# Altium footprint library RF.PcbLib: 8 footprints
Each footprint in its own frame and in the unit in brackets; x right, y up, seen from the top. Pads: shape width x height; smd on the part's side, far side on the other; paste and mask are expansions set on the pad; w line width, h text height; cw(c..) or ccw(c..) is an arc to the next point about the centre after c.
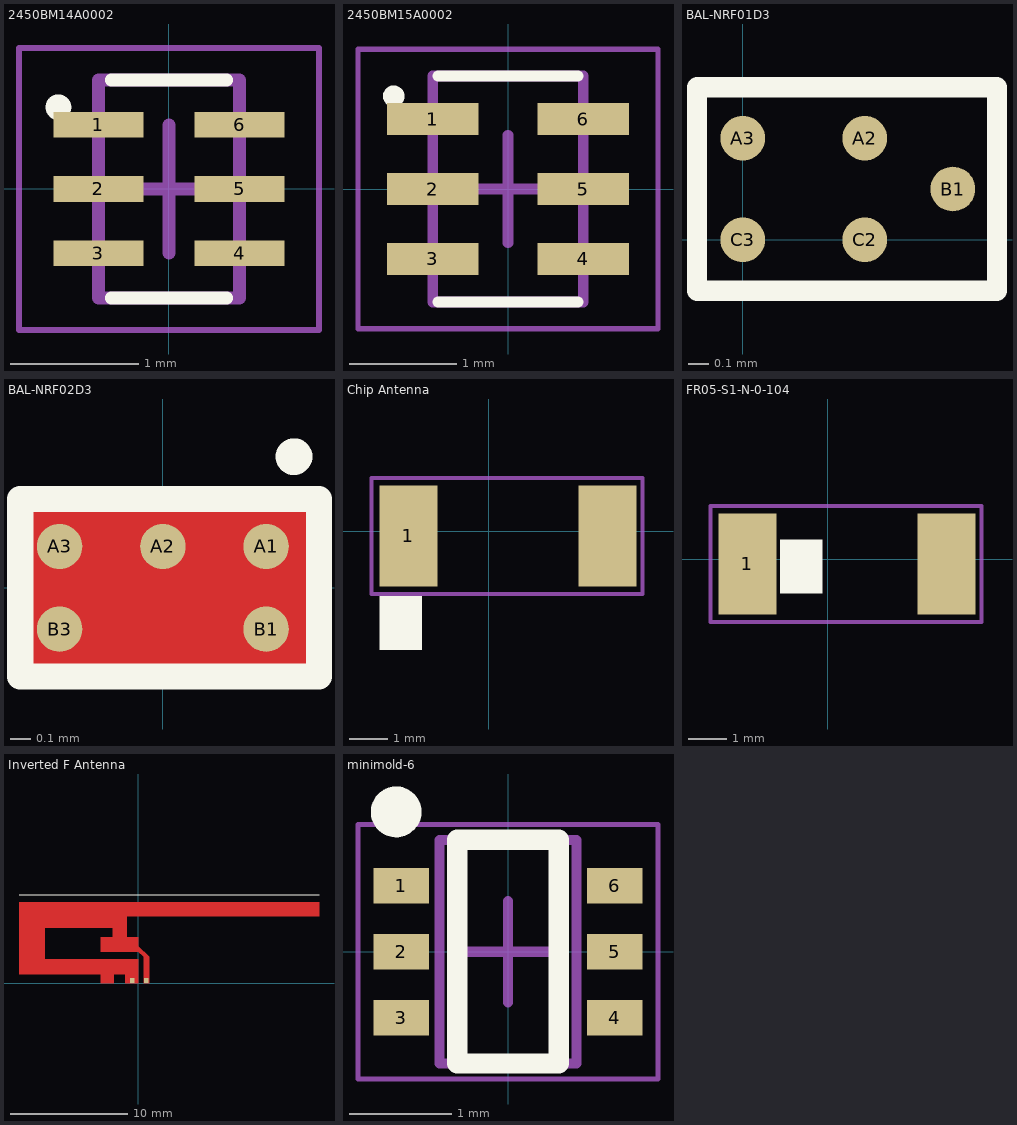
[diagram p0: the footprints below, top view; thin cyan lines are the x and y axes]

## 2450BM14A0002 [mm] "Chip Array, Flat, 6-Leads, Pitch 0.50mm,  Body 1.60x0.80mm,  IPC Medium Density"
height 0.7
pads (6):
  rect 0.7x0.2 smd: 1(-0.55,0.5) 2(-0.55,0) 3(-0.55,-0.5) 4(0.55,-0.5) 5(0.55,0) 6(0.55,0.5)
Top Overlay:
  circle w0.1: c-0.862,0.638 r0.05
  lines w0.1: -0.45,-0.85 0.45,-0.85 ; -0.45,0.85 0.45,0.85
Mechanical 13:
  lines w0.1: -0.55,-0.85 -0.55,0.85 0.55,0.85 0.55,-0.85 -0.55,-0.85
Mechanical 15:
  lines w0.05: -1.17,-1.1 -1.17,1.1 1.17,1.1 1.17,-1.1 -1.17,-1.1
  lines w0.1: -0.5,0 0.5,0 ; 0,-0.5 0,0.5
3D body: height 0.6, standoff 0, extent -0.45,-0.85 0.45,0.85
3D body: height 0.71, standoff 0.7, extent -0.2,0.2 0.2,0.55

## 2450BM15A0002 [mm] "Chip Array, Flat, 6-Leads, Pitch 0.65mm,  Body 2.00x1.25mm,  IPC Medium Density"
height 0.8
pads (6):
  rect 0.85x0.3 smd: 1(-0.7,0.65) 2(-0.7,0) 3(-0.7,-0.65) 4(0.7,-0.65) 5(0.7,0) 6(0.7,0.65)
Top Overlay:
  circle w0.1: c-1.062,0.863 r0.05
  lines w0.1: -0.65,-1.05 0.65,-1.05 ; -0.65,1.05 0.65,1.05
Mechanical 13:
  lines w0.1: -0.7,-1.05 0.7,-1.05 0.7,1.05 -0.7,1.05 -0.7,-1.05
Mechanical 15:
  lines w0.05: -1.395,-1.3 1.395,-1.3 1.395,1.3 -1.395,1.3 -1.395,-1.3
  lines w0.1: -0.5,0 0.5,0 ; 0,-0.5 0,0.5
3D body: height 0.8, standoff 0, extent -0.675,-1.05 0.675,1.05
3D body: height 0.81, standoff 0.8, extent -0.375,0.375 0.375,0.95

## BAL-NRF01D3 [mm] "ST electronic balun"
pads (5):
  round 0.22 smd mask+0.05: A2(0.6,0.5) A3(0,0.5) B1(1.033,0.25) C2(0.6,0) C3(0,0)
Top Overlay:
  lines w0.1: -0.225,-0.25 -0.225,0.75 1.25,0.75 1.25,-0.25 -0.225,-0.25
3D body: height 0.61, standoff 0.21, extent -0.225,-0.25 1.25,0.75
3D body: height 0.25, standoff 0, extent 0.901,0.126 1.15,0.375
3D body: height 0.25, standoff 0, extent 0.476,0.376 0.725,0.625
3D body: height 0.25, standoff 0, extent 0.476,-0.124 0.725,0.125
3D body: height 0.25, standoff 0, extent -0.124,-0.124 0.125,0.125
3D body: height 0.25, standoff 0, extent -0.124,0.376 0.125,0.625
3D body: height 0.63, standoff 0.61, extent -0.225,-0.25 1.25,0.75

## BAL-NRF02D3 [mm] "BAL-NRF02D3"
pads (5):
  round 0.22 smd mask+0.05: A1(0.5,0.2) A2(0,0.2) A3(-0.5,0.2) B1(0.5,-0.2) B3(-0.5,-0.2)
Top Layer:
  pour cut-out: -0.697,-0.43 0.756,-0.43 0.756,0.44 -0.697,0.44
Top Overlay:
  circle w0.127: c0.635,0.635 r0.025
  lines w0.127: -0.69,-0.43 0.756,-0.43 0.756,0.43 -0.69,0.43 -0.69,-0.43
3D body: height 0.17, standoff -0.05, extent 0.391,0.091 0.61,0.31
3D body: height 0.17, standoff -0.05, extent -0.609,-0.309 -0.39,-0.09
3D body: height 0.17, standoff -0.05, extent -0.609,0.091 -0.39,0.31
3D body: height 0.17, standoff -0.05, extent 0.391,-0.309 0.61,-0.09
3D body: height 0.17, standoff -0.05, extent -0.109,0.091 0.11,0.31
3D body: height 0.63, standoff 0.51, extent -0.703,-0.43 0.76,0.43
3D body: height 0.51, standoff 0.11, extent -0.69,-0.43 0.759,0.43

## Chip Antenna [mm] "FR05-S1-N-0-102"
pads (2):
  rect 1.5x2.6 smd: 1(-2.075,-0.125) ""(3.075,-0.125)
Top Overlay:
  rectangle: -2.825,-3.075 -1.725,-1.675
Mechanical 13:
  lines w0.1: -3.025,-1.625 -3.025,1.375 3.975,1.375 3.975,-1.625 -3.025,-1.625
Mechanical 15:
  lines w0.1: -3.025,-1.625 -3.025,1.375 3.975,1.375 3.975,-1.625 -3.025,-1.625
3D body: height 2, standoff 0, extent -3.025,-1.625 3.975,1.375
3D body: height 2.05, standoff 2, extent -2.923,0.635 -1.143,1.272
3D body: height 2.05, standoff 2, extent -2.922,-1.512 -1.142,-0.875
3D body: height 2.05, standoff 2, extent -2.923,-0.875 -2.568,0.635
3D body: height 2.05, standoff 2, extent -1.498,-0.875 -1.143,0.635
3D body: height 2.2, standoff 1.6, extent -2.354,-0.4 -1.757,0.197
3D body: height 2.2, standoff 1.6, extent 2.825,-0.373 3.423,0.224

## FR05-S1-N-0-104 [mm] "FR05-S1-N-0-104"
pads (2):
  rect 1.5x2.6 smd: 1(-2.075,-0.125) ""(3.075,-0.125)
Top Overlay:
  rectangle: -1.227,-0.892 -0.127,0.508
Mechanical 13:
  lines w0.1: -3.025,-1.625 -3.025,1.375 3.975,1.375 3.975,-1.625 -3.025,-1.625
Mechanical 15:
  lines w0.1: -3.025,-1.625 -3.025,1.375 3.975,1.375 3.975,-1.625 -3.025,-1.625
3D body: height 0.9, standoff 0, extent -3.025,-1.625 3.975,1.375
3D body: height 2.05, standoff 2, extent -2.923,0.635 -1.143,1.272
3D body: height 2.05, standoff 2, extent -2.922,-1.512 -1.142,-0.875
3D body: height 2.05, standoff 2, extent -2.923,-0.875 -2.568,0.635
3D body: height 2.05, standoff 2, extent -1.498,-0.875 -1.143,0.635
3D body: height 1.1, standoff 0.5, extent -2.357,-0.401 -1.758,0.198
3D body: height 1.1, standoff 0.5, extent 2.824,-0.376 3.424,0.224

## Inverted F Antenna [mm]
pads (2):
  rect 0.4x0.4 smd mask-20: GND(-0.525,0.225) SIG(0.675,0.225)
Top Layer:
  region: 0,0 0,2.03 -8,2.03 -8,4.7 -2.2,4.7 -2.2,3.9 -3.2,3.9 -3.2,2.69 0,2.69 0.45,2.24 0.45,0 0.91,0 0.91,2.23 0,3.14 0,3.9 -1,3.9 -1,5.7 15.4,5.7 15.4,6.91 -10.18,6.91 -10.18,0.74 -3.2,0.74 -3.2,0 -2.1,0 -2.1,0.74 -1.1,0.74 -1.1,0
Top Overlay:
  lines w0.1: -10.18,7.52 15.4,7.52

## minimold-6 [mm] "SOTFL, 6-Leads, Body 2.00x2.10mm, Pitch 0.65mm, IPC Medium Density"
height 1
pads (6):
  rect 0.55x0.35 smd: 1(-1.05,0.65) 2(-1.05,0) 3(-1.05,-0.65) 4(1.05,-0.65) 5(1.05,0) 6(1.05,0.65)
Top Overlay:
  circle w0.25: c-1.1,1.375 r0.125
  lines w0.2: -0.5,-1.1 0.5,-1.1 0.5,1.1 -0.5,1.1 -0.5,-1.1
Mechanical 13:
  lines w0.1: -0.675,-1.1 -0.675,1.1 0.675,1.1 0.675,-1.1 -0.675,-1.1
Mechanical 15:
  lines w0.05: -1.475,-1.25 -1.475,1.25 1.475,1.25 1.475,-1.25 -1.475,-1.25
  lines w0.1: -0.5,0 0.5,0 ; 0,-0.5 0,0.5
3D body: height 1, standoff 0, extent -0.675,-1.1 0.675,1.1